# Altium footprint library DF134P125DS25.PcbLib: 1 footprints
Each footprint in its own frame and in the unit in brackets; x right, y up, seen from the top. Pads: shape width x height; smd on the part's side, far side on the other; paste and mask are expansions set on the pad; w line width, h text height; cw(c..) or ccw(c..) is an arc to the next point about the centre after c.
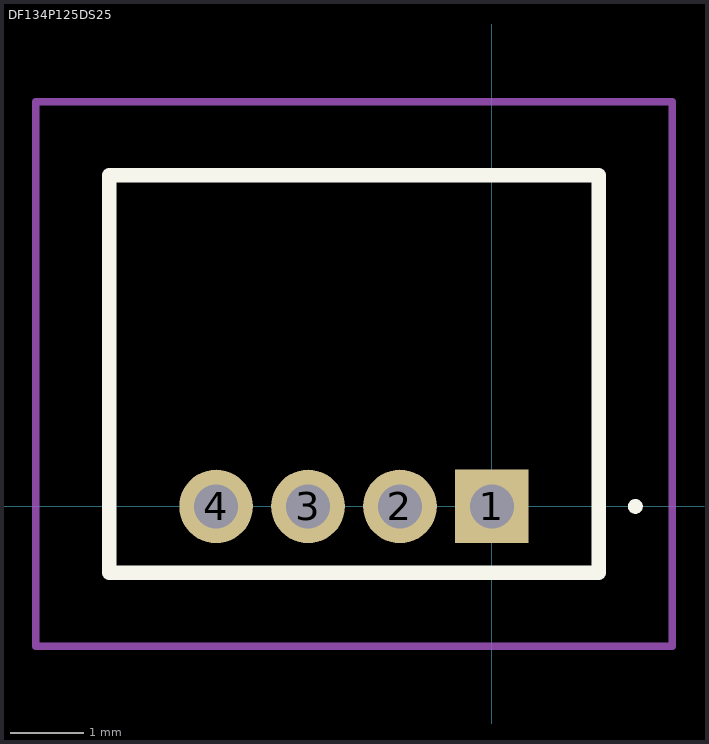
[diagram p0: the footprint, top view; thin cyan lines are the x and y axes]

## DF134P125DS25 [mm]
pads (4):
  rect 1x1 hole 0.6: 1(0,0)
  round 1 hole 0.6: 2(-1.25,0) 3(-2.5,0) 4(-3.75,0)
Top Overlay:
  lines w0.1: 1.9,0 1.9,0 ; 1.9,0 ccw(c1.95,0) 2,0 ; 1.9,0 cw(c1.95,0) 2,0 ; 2,0 2,0
  lines w0.2: -5.2,-0.9 1.45,-0.9 1.45,4.5 -5.2,4.5 -5.2,-0.9
Mechanical 15:
  lines w0.1: -5.2,-0.9 1.45,-0.9 1.45,4.5 -5.2,4.5 -5.2,-0.9
Mechanical 20:
  lines w0.1: -6.2,-1.9 2.45,-1.9 2.45,5.5 -6.2,5.5 -6.2,-1.9